# Altium schematic symbol library HR911105A.SchLib: 1 symbol
Pins are listed as number, name and electrical type; pins without a type are passive.

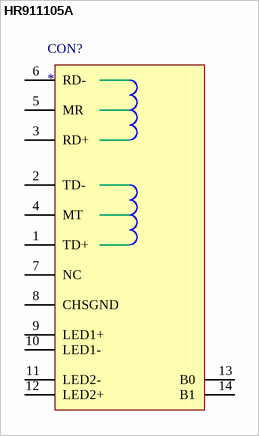
[diagram p0: symbol HR911105A]

## HR911105A
designator CON?
pins: 1 TD+, 2 TD-, 3 RD+, 4 MT, 5 MR, 6 RD-, 7 NC, 8 CHSGND, 9 LED1+, 10 LED1-, 11 LED2-, 12 LED2+, 13 B0, 14 B1